# Altium integrated library TI Microcontroller MSP430 16-bit Ultra-Low Power.IntLib: 1463 symbols (part 127 of 130)
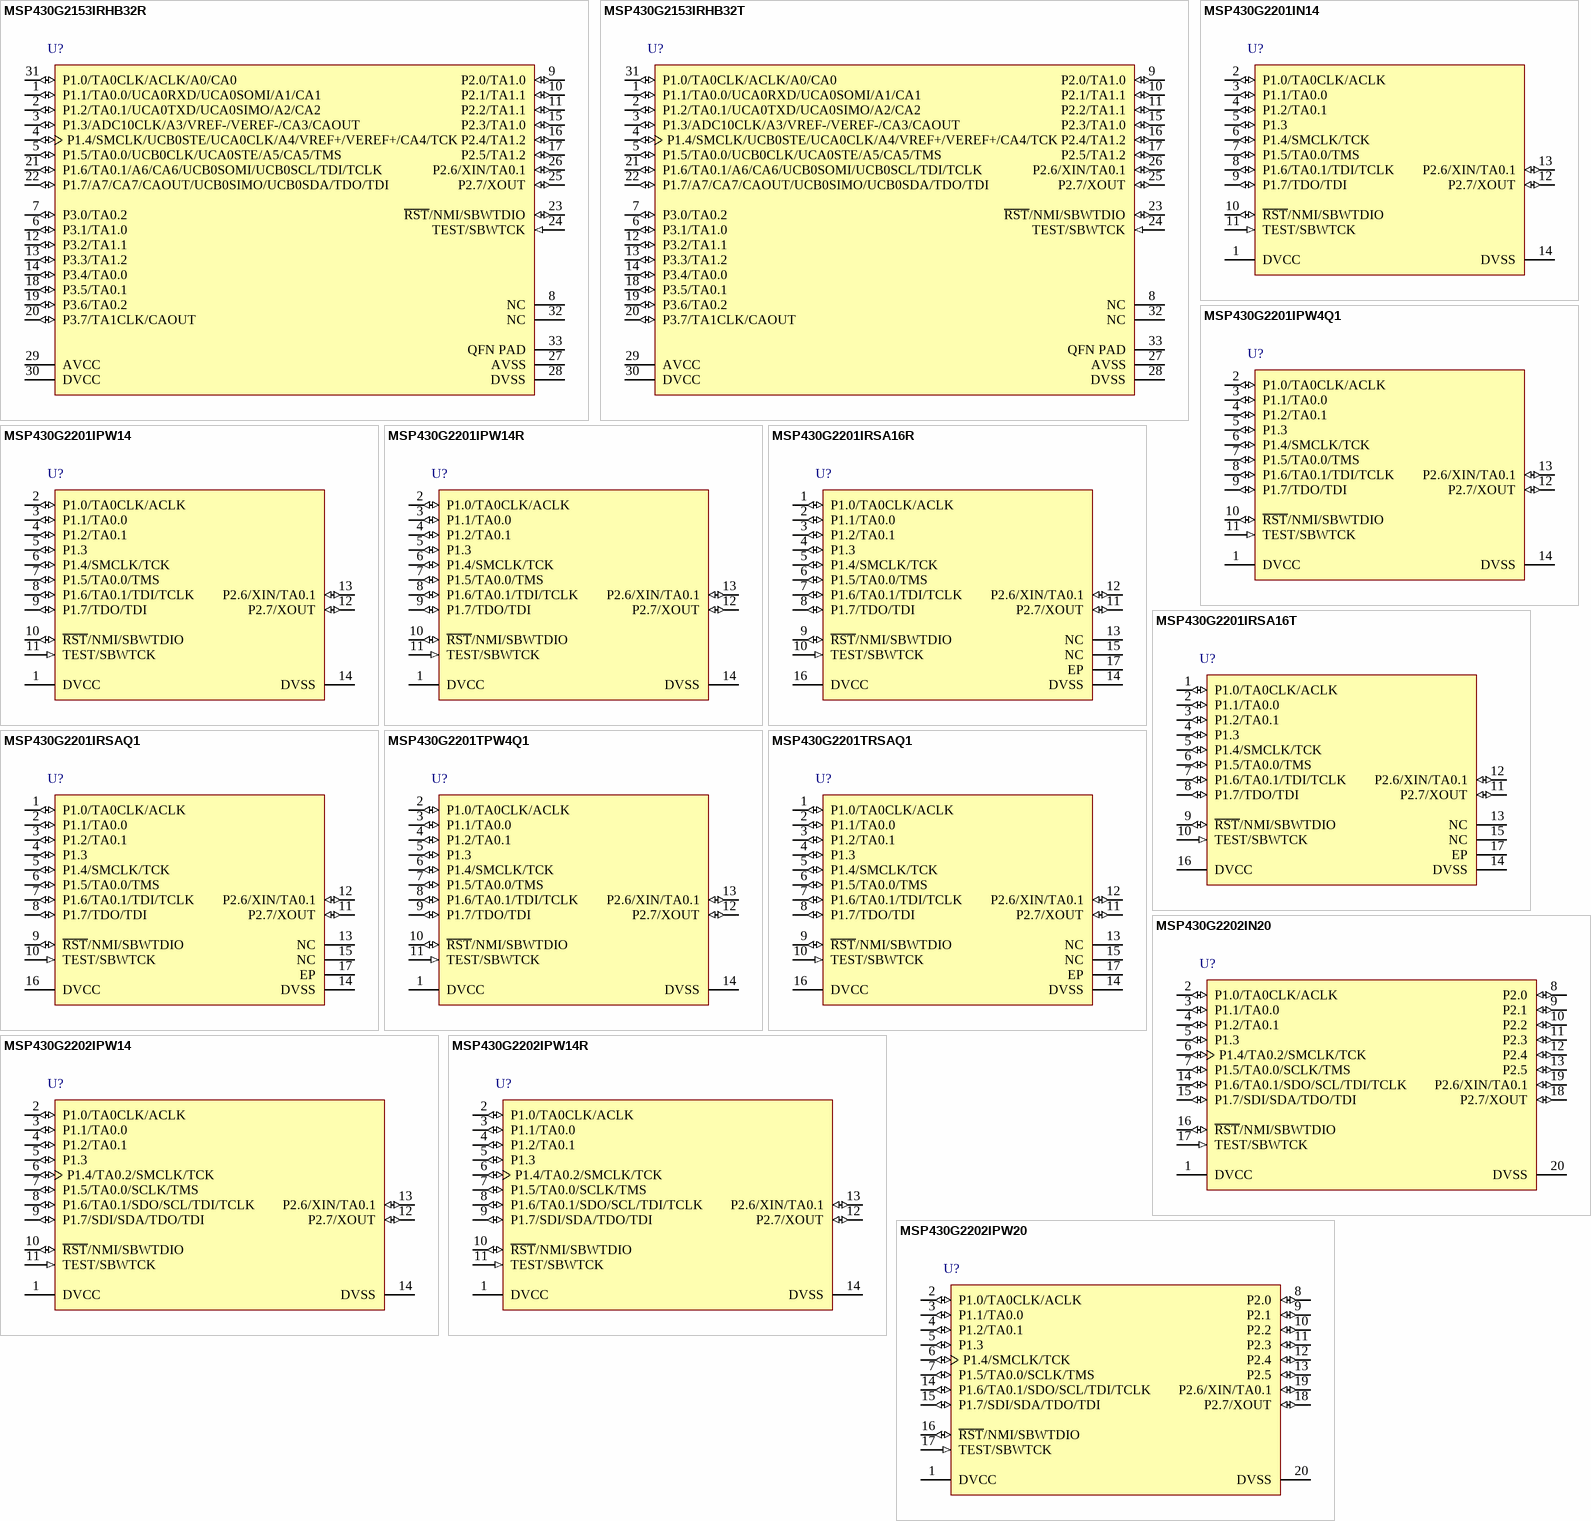
[diagram p299: symbols MSP430G2153IRHB32R to MSP430G2202IPW20]

## MSP430G2202IPW20
designator U?
16 MHz Mixed Signal Microcontroller with 2 KB Flash, 256 B SRAM and 16 GPIOs, 20-pin SOP (PW), Green (RoHS & no Sb/Br); Manufacturer: Texas Instruments; PartNumber: MSP430G2202IPW20; Brown Out Reset: Yes; Flash(KB): 2; Frequency(MHz): 16; SRAM(B): 256; SubFamily: Value Line; Timers - 16-bit: 1; USI: (I2C/SPI); DatasheetVersion: SLAS723F; PackageVersion: 4040064-5/G; PackageReference: PW20; PackageDescription: 20-Pin Plastic Small Outline, Body 6.5 x 4.4 mm, 0.65 mm Pitch; Supplier 1: Digi-Key; Supplier Part Number 1: MSP430G2202IPW14R-ND; Supplier 2: Mouser; Supplier Part Number 2: 595-SP430G2202IPW14R; Cap touch I/O: Yes; Eco-Plan: Green (RoHS & no Sb/Br); GPIO: 16; Watchdog: Yes; Mounting Technology: Surface Mount; Code_JEDEC: MO-153; ComponentLink1Description: Manufacturer URL; ComponentLink1URL: http://www.ti.com/; ComponentLink2Description: Datasheet; ComponentLink2URL: http://www.ti.com/general/docs/lit/getliterature.tsp?genericPartNumber=MSP430G2202&fileType=pdf; ComponentLink3Description: Package Specification; ComponentLink3URL: http://www.ti.com.cn/cn/lit/ml/mpds362/mpds362.pdf
footprint TI-PW20_N (SOP, 20-Leads, Body 6.5x4.4mm, Pitch 0.65mm, IPC Medium Density)
pins: 1 DVCC (power) "Supply voltage", 2 P1.0/TA0CLK/ACLK (io), 3 P1.1/TA0.0 (io), 4 P1.2/TA0.1 (io), 5 P1.3 (io) "General-purpose digital I/O pin", 6 P1.4/SMCLK/TCK (io), 7 P1.5/TA0.0/SCLK/TMS (io), 8 P2.0 (io) "General-purpose digital I/O pin", 9 P2.1 (io) "General-purpose digital I/O pin", 10 P2.2 (io) "General-purpose digital I/O pin", 11 P2.3 (io) "General-purpose digital I/O pin", 12 P2.4 (io) "General-purpose digital I/O pin", 13 P2.5 (io) "General-purpose digital I/O pin", 14 P1.6/TA0.1/SDO/SCL/TDI/TCLK (io), 15 P1.7/SDI/SDA/TDO/TDI (io), 16 ~{RST}/NMI/SBWTDIO (io), 17 TEST/SBWTCK (in), 18 P2.7/XOUT (io), 19 P2.6/XIN/TA0.1 (io), 20 DVSS (power) "Ground reference"

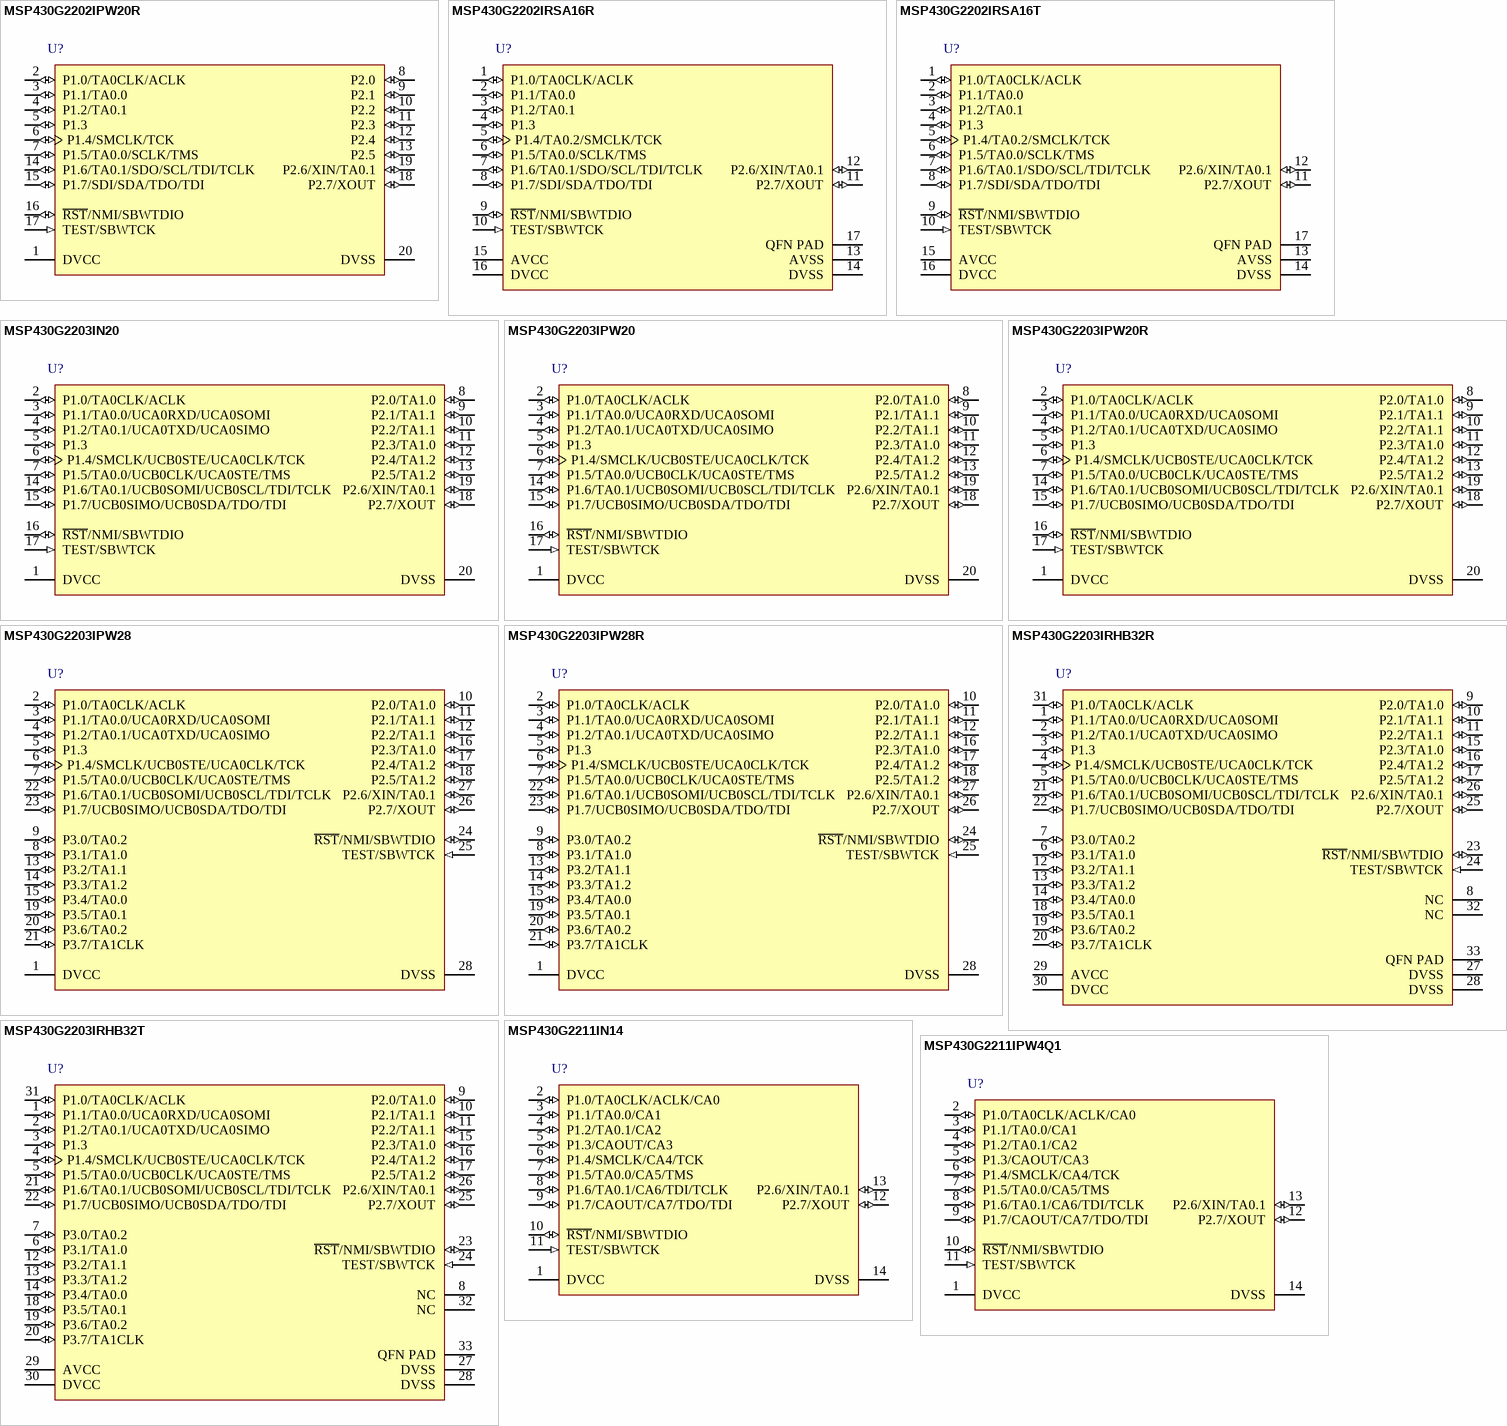
[diagram p217: symbols MSP430G2202IPW20R to MSP430G2211IPW4Q1]

## MSP430G2202IPW20R
designator U?
16 MHz Mixed Signal Microcontroller with 2 KB Flash, 256 B SRAM and 16 GPIOs, 20-pin SOP (PW), Green (RoHS & no Sb/Br); Manufacturer: Texas Instruments; PartNumber: MSP430G2202IPW20R; Brown Out Reset: Yes; Flash(KB): 2; Frequency(MHz): 16; SRAM(B): 256; SubFamily: Value Line; Timers - 16-bit: 1; USI: (I2C/SPI); DatasheetVersion: SLAS723F; PackageVersion: 4040064-5/G; PackageReference: PW20; PackageDescription: 20-Pin Plastic Small Outline, Body 6.5 x 4.4 mm, 0.65 mm Pitch; Supplier 1: Digi-Key; Supplier Part Number 1: 296-29631-5-ND; Supplier 2: Farnell; Supplier Part Number 2: 1866859; Supplier 3: Newark; Supplier Part Number 3: 24T4655; Supplier 4: Mouser; Supplier Part Number 4: 595-MSP430G2202IPW20; Cap touch I/O: Yes; Eco-Plan: Green (RoHS & no Sb/Br); GPIO: 16; Watchdog: Yes; Mounting Technology: Surface Mount; Code_JEDEC: MO-153; ComponentLink1Description: Manufacturer URL; ComponentLink1URL: http://www.ti.com/; ComponentLink2Description: Datasheet; ComponentLink2URL: http://www.ti.com/general/docs/lit/getliterature.tsp?genericPartNumber=MSP430G2202&fileType=pdf; ComponentLink3Description: Package Specification; ComponentLink3URL: http://www.ti.com.cn/cn/lit/ml/mpds362/mpds362.pdf
footprint TI-PW20_N (SOP, 20-Leads, Body 6.5x4.4mm, Pitch 0.65mm, IPC Medium Density)
pins: 1 DVCC (power) "Supply voltage", 2 P1.0/TA0CLK/ACLK (io), 3 P1.1/TA0.0 (io), 4 P1.2/TA0.1 (io), 5 P1.3 (io) "General-purpose digital I/O pin", 6 P1.4/SMCLK/TCK (io), 7 P1.5/TA0.0/SCLK/TMS (io), 8 P2.0 (io) "General-purpose digital I/O pin", 9 P2.1 (io) "General-purpose digital I/O pin", 10 P2.2 (io) "General-purpose digital I/O pin", 11 P2.3 (io) "General-purpose digital I/O pin", 12 P2.4 (io) "General-purpose digital I/O pin", 13 P2.5 (io) "General-purpose digital I/O pin", 14 P1.6/TA0.1/SDO/SCL/TDI/TCLK (io), 15 P1.7/SDI/SDA/TDO/TDI (io), 16 ~{RST}/NMI/SBWTDIO (io), 17 TEST/SBWTCK (in), 18 P2.7/XOUT (io), 19 P2.6/XIN/TA0.1 (io), 20 DVSS (power) "Ground reference"

## MSP430G2202IRSA16R
designator U?
16 MHz Mixed Signal Microcontroller with 2 KB Flash, 256 B SRAM and 16 GPIOs, 16-pin QFN (RSA), Green (RoHS & no Sb/Br); Manufacturer: Texas Instruments; PartNumber: MSP430G2202IRSA16R; Brown Out Reset: Yes; Flash(KB): 2; Frequency(MHz): 16; SRAM(B): 256; SubFamily: Value Line; Timers - 16-bit: 1; USI: (I2C/SPI); DatasheetVersion: SLAS723F; PackageVersion: 4205141/D; PackageReference: RSA16-2700X2700TP; PackageDescription: 16-Pin Plastic Flat Pack, Body 4.00 x 4.00 mm, Pitch 0.65 mm; Supplier 1: Digi-Key; Supplier Part Number 1: MSP430G2202IPW20R-ND; Supplier 2: Mouser; Supplier Part Number 2: 595-SP430G2202IPW20R; Cap touch I/O: Yes; Eco-Plan: Green (RoHS & no Sb/Br); GPIO: 16; Watchdog: Yes; Mounting Technology: Surface Mount; Code_JEDEC: MO-220; ComponentLink1Description: Manufacturer URL; ComponentLink1URL: http://www.ti.com/; ComponentLink2Description: Datasheet; ComponentLink2URL: http://www.ti.com/general/docs/lit/getliterature.tsp?genericPartNumber=MSP430G2202&fileType=pdf; ComponentLink3Description: Package Specification; ComponentLink3URL: http://www.ti.com/litv/pdf/mpqf145c
footprint TI-RSA16-2700X2700TP_N (QFN, 16-Leads, Body 4x4mm, Pitch 0.65mm, Thermal Pad 2.7x2.7mm, IPC Medium Density)
pins: 1 P1.0/TA0CLK/ACLK (io), 2 P1.1/TA0.0 (io), 3 P1.2/TA0.1 (io), 4 P1.3 (io) "General-purpose digital I/O pin", 5 P1.4/TA0.2/SMCLK/TCK (io), 6 P1.5/TA0.0/SCLK/TMS (io), 7 P1.6/TA0.1/SDO/SCL/TDI/TCLK (io), 8 P1.7/SDI/SDA/TDO/TDI (io), 9 ~{RST}/NMI/SBWTDIO (io), 10 TEST/SBWTCK (in), 11 P2.7/XOUT (io), 12 P2.6/XIN/TA0.1 (io), 13 AVSS (power) "Ground reference", 14 DVSS (power) "Ground reference", 15 AVCC (power) "Supply voltage", 16 DVCC (power) "Supply voltage", 17 QFN PAD (power) "QFN package pad connection to VSS recommended."

## MSP430G2202IRSA16T
designator U?
16 MHz Mixed Signal Microcontroller with 2 KB Flash, 256 B SRAM and 16 GPIOs, 16-pin QFN (RSA), Green (RoHS & no Sb/Br); Manufacturer: Texas Instruments; PartNumber: MSP430G2202IRSA16T; Brown Out Reset: Yes; Flash(KB): 2; Frequency(MHz): 16; SRAM(B): 256; SubFamily: Value Line; Timers - 16-bit: 1; USI: (I2C/SPI); DatasheetVersion: SLAS723F; PackageVersion: 4205141/D; PackageReference: RSA16-2700X2700TP; PackageDescription: 16-Pin Plastic Flat Pack, Body 4.00 x 4.00 mm, Pitch 0.65 mm; Supplier 1: Digi-Key; Supplier Part Number 1: MSP430G2202IRSA16R-ND; Supplier 2: Mouser; Supplier Part Number 2: 595-P430G2202IRSA16R; Cap touch I/O: Yes; Eco-Plan: Green (RoHS & no Sb/Br); GPIO: 16; Watchdog: Yes; Mounting Technology: Surface Mount; Code_JEDEC: MO-220; ComponentLink1Description: Manufacturer URL; ComponentLink1URL: http://www.ti.com/; ComponentLink2Description: Datasheet; ComponentLink2URL: http://www.ti.com/general/docs/lit/getliterature.tsp?genericPartNumber=MSP430G2202&fileType=pdf; ComponentLink3Description: Package Specification; ComponentLink3URL: http://www.ti.com/litv/pdf/mpqf145c
footprint TI-RSA16-2700X2700TP_N (QFN, 16-Leads, Body 4x4mm, Pitch 0.65mm, Thermal Pad 2.7x2.7mm, IPC Medium Density)
pins: 1 P1.0/TA0CLK/ACLK (io), 2 P1.1/TA0.0 (io), 3 P1.2/TA0.1 (io), 4 P1.3 (io) "General-purpose digital I/O pin", 5 P1.4/TA0.2/SMCLK/TCK (io), 6 P1.5/TA0.0/SCLK/TMS (io), 7 P1.6/TA0.1/SDO/SCL/TDI/TCLK (io), 8 P1.7/SDI/SDA/TDO/TDI (io), 9 ~{RST}/NMI/SBWTDIO (io), 10 TEST/SBWTCK (in), 11 P2.7/XOUT (io), 12 P2.6/XIN/TA0.1 (io), 13 AVSS (power) "Ground reference", 14 DVSS (power) "Ground reference", 15 AVCC (power) "Supply voltage", 16 DVCC (power) "Supply voltage", 17 QFN PAD (power) "QFN package pad connection to VSS recommended."

## MSP430G2203IN20
designator U?
16 MHz Mixed Signal Microcontroller with 2 KB Flash, 256 B SRAM and 24 GPIOs, -40 to 85 degC, 20-pin DIP (N20), Pb-Free (RoHS); Manufacturer: Texas Instruments; PartNumber: MSP430G2203IN20; Brown Out Reset: Yes; Flash(KB): 2; Frequency(MHz): 16; GPIO: 24; SRAM(B): 256; SubFamily: Value Line; USCI_A (UART/LIN/IrDA/SPI): 1; DatasheetVersion: SLAS734D; PackageVersion: 4040049/E; PackageReference: N20; PackageDescription: 20-Pin Plastic In-Line, Body 25.40 x 6.35 mm, Pitch 2.54 mm; Supplier 1: Digi-Key; Supplier Part Number 1: MSP430G2202IRSA16T-ND; Supplier 2: Farnell; Supplier Part Number 2: 1866860; Supplier 3: Mouser; Supplier Part Number 3: 595-P430G2202IRSA16T; Cap touch I/O: Yes; Eco-Plan: Pb-Free (RoHS); Timers - 16-bit: 2; USCI_B (I2C & SPI): 1; Watchdog: Yes; Mounting Technology: Through Hole; Code_JEDEC: MS-001; ComponentLink1Description: Manufacturer URL; ComponentLink1URL: http://www.ti.com/; ComponentLink2Description: Datasheet; ComponentLink2URL: http://www.ti.com/general/docs/lit/getliterature.tsp?genericPartNumber=MSP430G2203&fileType=pdf; ComponentLink3Description: Package Specification; ComponentLink3URL: http://www.ti.com/litv/pdf/mpds177g
footprint TI-N20 (DIP, 20-Leads, Body 25.4x6.35 mm, Pitch 2.54 mm)
pins: 1 DVCC (power) "Supply voltage", 2 P1.0/TA0CLK/ACLK (io), 3 P1.1/TA0.0/UCA0RXD/UCA0SOMI (io), 4 P1.2/TA0.1/UCA0TXD/UCA0SIMO (io), 5 P1.3 (io) "General-purpose digital I/O pin", 6 P1.4/SMCLK/UCB0STE/UCA0CLK/TCK (io), 7 P1.5/TA0.0/UCB0CLK/UCA0STE/TMS (io), 8 P2.0/TA1.0 (io), 9 P2.1/TA1.1 (io), 10 P2.2/TA1.1 (io), 11 P2.3/TA1.0 (io), 12 P2.4/TA1.2 (io), 13 P2.5/TA1.2 (io), 14 P1.6/TA0.1/UCB0SOMI/UCB0SCL/TDI/TCLK (io), 15 P1.7/UCB0SIMO/UCB0SDA/TDO/TDI (io), 16 ~{RST}/NMI/SBWTDIO (io), 17 TEST/SBWTCK (in), 18 P2.7/XOUT (io), 19 P2.6/XIN/TA0.1 (io), 20 DVSS (power) "Ground reference"

## MSP430G2203IPW20
designator U?
16 MHz Mixed Signal Microcontroller with 2 KB Flash, 256 B SRAM and 24 GPIOs, -40 to 85 degC, 20-pin SOP (PW), Green (RoHS & no Sb/Br); Manufacturer: Texas Instruments; PartNumber: MSP430G2203IPW20; Brown Out Reset: Yes; Flash(KB): 2; Frequency(MHz): 16; GPIO: 24; SRAM(B): 256; SubFamily: Value Line; USCI_A (UART/LIN/IrDA/SPI): 1; DatasheetVersion: SLAS734D; PackageVersion: 4040064-5/G; PackageReference: PW20; PackageDescription: 20-Pin Plastic Small Outline, Body 6.5 x 4.4 mm, 0.65 mm Pitch; Supplier 1: Digi-Key; Supplier Part Number 1: 296-28757-5-ND; Supplier 2: Newark; Supplier Part Number 2: 45T9777; Supplier 3: Mouser; Supplier Part Number 3: 595-MSP430G2203IN20; Cap touch I/O: Yes; Eco-Plan: Green (RoHS & no Sb/Br); Timers - 16-bit: 2; USCI_B (I2C & SPI): 1; Watchdog: Yes; Mounting Technology: Surface Mount; Code_JEDEC: MO-153; ComponentLink1Description: Manufacturer URL; ComponentLink1URL: http://www.ti.com/; ComponentLink2Description: Datasheet; ComponentLink2URL: http://www.ti.com/general/docs/lit/getliterature.tsp?genericPartNumber=MSP430G2203&fileType=pdf; ComponentLink3Description: Package Specification; ComponentLink3URL: http://www.ti.com.cn/cn/lit/ml/mpds362/mpds362.pdf
footprint TI-PW20_N (SOP, 20-Leads, Body 6.5x4.4mm, Pitch 0.65mm, IPC Medium Density)
pins: 1 DVCC (power) "Supply voltage", 2 P1.0/TA0CLK/ACLK (io), 3 P1.1/TA0.0/UCA0RXD/UCA0SOMI (io), 4 P1.2/TA0.1/UCA0TXD/UCA0SIMO (io), 5 P1.3 (io) "General-purpose digital I/O pin", 6 P1.4/SMCLK/UCB0STE/UCA0CLK/TCK (io), 7 P1.5/TA0.0/UCB0CLK/UCA0STE/TMS (io), 8 P2.0/TA1.0 (io), 9 P2.1/TA1.1 (io), 10 P2.2/TA1.1 (io), 11 P2.3/TA1.0 (io), 12 P2.4/TA1.2 (io), 13 P2.5/TA1.2 (io), 14 P1.6/TA0.1/UCB0SOMI/UCB0SCL/TDI/TCLK (io), 15 P1.7/UCB0SIMO/UCB0SDA/TDO/TDI (io), 16 ~{RST}/NMI/SBWTDIO (io), 17 TEST/SBWTCK (in), 18 P2.7/XOUT (io), 19 P2.6/XIN/TA0.1 (io), 20 DVSS (power) "Ground reference"

## MSP430G2203IPW20R
designator U?
16 MHz Mixed Signal Microcontroller with 2 KB Flash, 256 B SRAM and 24 GPIOs, -40 to 85 degC, 20-pin SOP (PW), Green (RoHS & no Sb/Br); Manufacturer: Texas Instruments; PartNumber: MSP430G2203IPW20R; Brown Out Reset: Yes; Flash(KB): 2; Frequency(MHz): 16; GPIO: 24; SRAM(B): 256; SubFamily: Value Line; USCI_A (UART/LIN/IrDA/SPI): 1; DatasheetVersion: SLAS734D; PackageVersion: 4040064-5/G; PackageReference: PW20; PackageDescription: 20-Pin Plastic Small Outline, Body 6.5 x 4.4 mm, 0.65 mm Pitch; Supplier 1: Digi-Key; Supplier Part Number 1: 296-28758-5-ND; Supplier 2: Mouser; Supplier Part Number 2: 595-MSP430G2203IPW20; Cap touch I/O: Yes; Eco-Plan: Green (RoHS & no Sb/Br); Timers - 16-bit: 2; USCI_B (I2C & SPI): 1; Watchdog: Yes; Mounting Technology: Surface Mount; Code_JEDEC: MO-153; ComponentLink1Description: Manufacturer URL; ComponentLink1URL: http://www.ti.com/; ComponentLink2Description: Datasheet; ComponentLink2URL: http://www.ti.com/general/docs/lit/getliterature.tsp?genericPartNumber=MSP430G2203&fileType=pdf; ComponentLink3Description: Package Specification; ComponentLink3URL: http://www.ti.com.cn/cn/lit/ml/mpds362/mpds362.pdf
footprint TI-PW20_N (SOP, 20-Leads, Body 6.5x4.4mm, Pitch 0.65mm, IPC Medium Density)
pins: 1 DVCC (power) "Supply voltage", 2 P1.0/TA0CLK/ACLK (io), 3 P1.1/TA0.0/UCA0RXD/UCA0SOMI (io), 4 P1.2/TA0.1/UCA0TXD/UCA0SIMO (io), 5 P1.3 (io) "General-purpose digital I/O pin", 6 P1.4/SMCLK/UCB0STE/UCA0CLK/TCK (io), 7 P1.5/TA0.0/UCB0CLK/UCA0STE/TMS (io), 8 P2.0/TA1.0 (io), 9 P2.1/TA1.1 (io), 10 P2.2/TA1.1 (io), 11 P2.3/TA1.0 (io), 12 P2.4/TA1.2 (io), 13 P2.5/TA1.2 (io), 14 P1.6/TA0.1/UCB0SOMI/UCB0SCL/TDI/TCLK (io), 15 P1.7/UCB0SIMO/UCB0SDA/TDO/TDI (io), 16 ~{RST}/NMI/SBWTDIO (io), 17 TEST/SBWTCK (in), 18 P2.7/XOUT (io), 19 P2.6/XIN/TA0.1 (io), 20 DVSS (power) "Ground reference"

## MSP430G2203IPW28
designator U?
16 MHz Mixed Signal Microcontroller with 2 KB Flash, 256 B SRAM and 24 GPIOs, -40 to 85 degC, 28-pin SOP (PW), Green (RoHS & no Sb/Br); Manufacturer: Texas Instruments; PartNumber: MSP430G2203IPW28; Brown Out Reset: Yes; Flash(KB): 2; Frequency(MHz): 16; GPIO: 24; SRAM(B): 256; SubFamily: Value Line; USCI_A (UART/LIN/IrDA/SPI): 1; DatasheetVersion: SLAS734D; PackageVersion: 4040064-7/G; PackageReference: PW28; PackageDescription: 28-Pin Plastic Small Outline, Body 9.7 x 4.4 mm, Pitch 0.65 mm; Supplier 1: Digi-Key; Supplier Part Number 1: MSP430G2203IPW20R-ND; Supplier 2: Mouser; Supplier Part Number 2: 595-SP430G2203IPW20R; Cap touch I/O: Yes; Eco-Plan: Green (RoHS & no Sb/Br); Timers - 16-bit: 2; USCI_B (I2C & SPI): 1; Watchdog: Yes; Mounting Technology: Surface Mount; Code_JEDEC: MO-153; ComponentLink1Description: Manufacturer URL; ComponentLink1URL: http://www.ti.com/; ComponentLink2Description: Datasheet; ComponentLink2URL: http://www.ti.com/general/docs/lit/getliterature.tsp?genericPartNumber=MSP430G2203&fileType=pdf; ComponentLink3Description: Package Specification; ComponentLink3URL: http://www.ti.com/litv/pdf/mpds364
footprint TI-PW28_N (SOP, 28-Leads, Body 9.7x4.4mm, Pitch 0.65mm, IPC Medium Density)
pins: 1 DVCC (power) "Digital supply voltage", 2 P1.0/TA0CLK/ACLK (io), 3 P1.1/TA0.0/UCA0RXD/UCA0SOMI (io), 4 P1.2/TA0.1/UCA0TXD/UCA0SIMO (io), 5 P1.3 (io) "General-purpose digital I/O pin", 6 P1.4/SMCLK/UCB0STE/UCA0CLK/TCK (io), 7 P1.5/TA0.0/UCB0CLK/UCA0STE/TMS (io), 8 P3.1/TA1.0 (io), 9 P3.0/TA0.2 (io), 10 P2.0/TA1.0 (io), 11 P2.1/TA1.1 (io), 12 P2.2/TA1.1 (io), 13 P3.2/TA1.1 (io), 14 P3.3/TA1.2 (io), 15 P3.4/TA0.0 (io), 16 P2.3/TA1.0 (io), 17 P2.4/TA1.2 (io), 18 P2.5/TA1.2 (io), 19 P3.5/TA0.1 (io), 20 P3.6/TA0.2 (io), 21 P3.7/TA1CLK (io), 22 P1.6/TA0.1/UCB0SOMI/UCB0SCL/TDI/TCLK (io), 23 P1.7/UCB0SIMO/UCB0SDA/TDO/TDI (io), 24 ~{RST}/NMI/SBWTDIO (io), 25 TEST/SBWTCK (in), 26 P2.7/XOUT (io), 27 P2.6/XIN/TA0.1 (io), 28 DVSS (power) "Ground reference"

## MSP430G2203IPW28R
designator U?
16 MHz Mixed Signal Microcontroller with 2 KB Flash, 256 B SRAM and 24 GPIOs, -40 to 85 degC, 28-pin SOP (PW), Green (RoHS & no Sb/Br); Manufacturer: Texas Instruments; PartNumber: MSP430G2203IPW28R; Brown Out Reset: Yes; Flash(KB): 2; Frequency(MHz): 16; GPIO: 24; SRAM(B): 256; SubFamily: Value Line; USCI_A (UART/LIN/IrDA/SPI): 1; DatasheetVersion: SLAS734D; PackageVersion: 4040064-7/G; PackageReference: PW28; PackageDescription: 28-Pin Plastic Small Outline, Body 9.7 x 4.4 mm, Pitch 0.65 mm; Supplier 1: Digi-Key; Supplier Part Number 1: 296-28759-5-ND; Supplier 2: Newark; Supplier Part Number 2: 45T9780; Supplier 3: Mouser; Supplier Part Number 3: 595-MSP430G2203IPW28; Cap touch I/O: Yes; Eco-Plan: Green (RoHS & no Sb/Br); Timers - 16-bit: 2; USCI_B (I2C & SPI): 1; Watchdog: Yes; Mounting Technology: Surface Mount; Code_JEDEC: MO-153; ComponentLink1Description: Manufacturer URL; ComponentLink1URL: http://www.ti.com/; ComponentLink2Description: Datasheet; ComponentLink2URL: http://www.ti.com/general/docs/lit/getliterature.tsp?genericPartNumber=MSP430G2203&fileType=pdf; ComponentLink3Description: Package Specification; ComponentLink3URL: http://www.ti.com/litv/pdf/mpds364
footprint TI-PW28_N (SOP, 28-Leads, Body 9.7x4.4mm, Pitch 0.65mm, IPC Medium Density)
pins: 1 DVCC (power) "Digital supply voltage", 2 P1.0/TA0CLK/ACLK (io), 3 P1.1/TA0.0/UCA0RXD/UCA0SOMI (io), 4 P1.2/TA0.1/UCA0TXD/UCA0SIMO (io), 5 P1.3 (io) "General-purpose digital I/O pin", 6 P1.4/SMCLK/UCB0STE/UCA0CLK/TCK (io), 7 P1.5/TA0.0/UCB0CLK/UCA0STE/TMS (io), 8 P3.1/TA1.0 (io), 9 P3.0/TA0.2 (io), 10 P2.0/TA1.0 (io), 11 P2.1/TA1.1 (io), 12 P2.2/TA1.1 (io), 13 P3.2/TA1.1 (io), 14 P3.3/TA1.2 (io), 15 P3.4/TA0.0 (io), 16 P2.3/TA1.0 (io), 17 P2.4/TA1.2 (io), 18 P2.5/TA1.2 (io), 19 P3.5/TA0.1 (io), 20 P3.6/TA0.2 (io), 21 P3.7/TA1CLK (io), 22 P1.6/TA0.1/UCB0SOMI/UCB0SCL/TDI/TCLK (io), 23 P1.7/UCB0SIMO/UCB0SDA/TDO/TDI (io), 24 ~{RST}/NMI/SBWTDIO (io), 25 TEST/SBWTCK (in), 26 P2.7/XOUT (io), 27 P2.6/XIN/TA0.1 (io), 28 DVSS (power) "Ground reference"

## MSP430G2203IRHB32R
designator U?
16 MHz Mixed Signal Microcontroller with 2 KB Flash, 256 B SRAM and 24 GPIOs, -40 to 85 degC, 32-pin QFN (RHB), Green (RoHS & no Sb/Br); Manufacturer: Texas Instruments; PartNumber: MSP430G2203IRHB32R; Brown Out Reset: Yes; Flash(KB): 2; Frequency(MHz): 16; GPIO: 24; SRAM(B): 256; SubFamily: Value Line; USCI_A (UART/LIN/IrDA/SPI): 1; DatasheetVersion: SLAS734D; PackageVersion: 4204326/D; PackageReference: RHB32-3450X3450TP; PackageDescription: 32-Pin Plastic Flat Pack, Body 5 x 5 mm, Pitch 0.5 mm; Supplier 1: Digi-Key; Supplier Part Number 1: MSP430G2203IPW28R-ND; Supplier 2: Mouser; Supplier Part Number 2: 595-SP430G2203IPW28R; Cap touch I/O: Yes; Eco-Plan: Green (RoHS & no Sb/Br); Timers - 16-bit: 2; USCI_B (I2C & SPI): 1; Watchdog: Yes; Mounting Technology: Surface Mount; Code_JEDEC: MO-220; ComponentLink1Description: Manufacturer URL; ComponentLink1URL: http://www.ti.com/; ComponentLink2Description: Datasheet; ComponentLink2URL: http://www.ti.com/general/docs/lit/getliterature.tsp?genericPartNumber=MSP430G2203&fileType=pdf; ComponentLink3Description: Package Specification; ComponentLink3URL: http://www.ti.com/lit/ml/mpqf130c/mpqf130c.pdf
footprint TI-RHB32-3450X3450TP_N (QFN, 32-Leads, Body 5x5mm, Pitch 0.5mm, Thermal Pad 3.45x3.45mm, IPC Medium Density)
pins: 1 P1.1/TA0.0/UCA0RXD/UCA0SOMI (io), 2 P1.2/TA0.1/UCA0TXD/UCA0SIMO (io), 3 P1.3 (io) "General-purpose digital I/O pin", 4 P1.4/SMCLK/UCB0STE/UCA0CLK/TCK (io), 5 P1.5/TA0.0/UCB0CLK/UCA0STE/TMS (io), 6 P3.1/TA1.0 (io), 7 P3.0/TA0.2 (io), 8 NC "Not connected", 9 P2.0/TA1.0 (io), 10 P2.1/TA1.1 (io), 11 P2.2/TA1.1 (io), 12 P3.2/TA1.1 (io), 13 P3.3/TA1.2 (io), 14 P3.4/TA0.0 (io), 15 P2.3/TA1.0 (io), 16 P2.4/TA1.2 (io), 17 P2.5/TA1.2 (io), 18 P3.5/TA0.1 (io), 19 P3.6/TA0.2 (io), 20 P3.7/TA1CLK (io), 21 P1.6/TA0.1/UCB0SOMI/UCB0SCL/TDI/TCLK (io), 22 P1.7/UCB0SIMO/UCB0SDA/TDO/TDI (io), 23 ~{RST}/NMI/SBWTDIO (io), 24 TEST/SBWTCK (in), 25 P2.7/XOUT (io), 26 P2.6/XIN/TA0.1 (io), 27 DVSS (power) "Ground reference", 28 DVSS (power) "Ground reference", 29 AVCC (power) "Analog supply voltage", 30 DVCC (power) "Digital supply voltage", 31 P1.0/TA0CLK/ACLK (io), 32 NC "Not connected", 33 QFN PAD (power) "QFN package pad. Connection to VSS is recommended."

## MSP430G2203IRHB32T
designator U?
16 MHz Mixed Signal Microcontroller with 2 KB Flash, 256 B SRAM and 24 GPIOs, -40 to 85 degC, 32-pin QFN (RHB), Green (RoHS & no Sb/Br); Manufacturer: Texas Instruments; PartNumber: MSP430G2203IRHB32T; Brown Out Reset: Yes; Flash(KB): 2; Frequency(MHz): 16; GPIO: 24; SRAM(B): 256; SubFamily: Value Line; USCI_A (UART/LIN/IrDA/SPI): 1; DatasheetVersion: SLAS734D; PackageVersion: 4204326/D; PackageReference: RHB32-3450X3450TP; PackageDescription: 32-Pin Plastic Flat Pack, Body 5 x 5 mm, Pitch 0.5 mm; Supplier 1: Digi-Key; Supplier Part Number 1: MSP430G2203IRHB32R-ND; Supplier 2: Mouser; Supplier Part Number 2: 595-P430G2203IRHB32R; Cap touch I/O: Yes; Eco-Plan: Green (RoHS & no Sb/Br); Timers - 16-bit: 2; USCI_B (I2C & SPI): 1; Watchdog: Yes; Mounting Technology: Surface Mount; Code_JEDEC: MO-220; ComponentLink1Description: Manufacturer URL; ComponentLink1URL: http://www.ti.com/; ComponentLink2Description: Datasheet; ComponentLink2URL: http://www.ti.com/general/docs/lit/getliterature.tsp?genericPartNumber=MSP430G2203&fileType=pdf; ComponentLink3Description: Package Specification; ComponentLink3URL: http://www.ti.com/lit/ml/mpqf130c/mpqf130c.pdf
footprint TI-RHB32-3450X3450TP_N (QFN, 32-Leads, Body 5x5mm, Pitch 0.5mm, Thermal Pad 3.45x3.45mm, IPC Medium Density)
pins: 1 P1.1/TA0.0/UCA0RXD/UCA0SOMI (io), 2 P1.2/TA0.1/UCA0TXD/UCA0SIMO (io), 3 P1.3 (io) "General-purpose digital I/O pin", 4 P1.4/SMCLK/UCB0STE/UCA0CLK/TCK (io), 5 P1.5/TA0.0/UCB0CLK/UCA0STE/TMS (io), 6 P3.1/TA1.0 (io), 7 P3.0/TA0.2 (io), 8 NC "Not connected", 9 P2.0/TA1.0 (io), 10 P2.1/TA1.1 (io), 11 P2.2/TA1.1 (io), 12 P3.2/TA1.1 (io), 13 P3.3/TA1.2 (io), 14 P3.4/TA0.0 (io), 15 P2.3/TA1.0 (io), 16 P2.4/TA1.2 (io), 17 P2.5/TA1.2 (io), 18 P3.5/TA0.1 (io), 19 P3.6/TA0.2 (io), 20 P3.7/TA1CLK (io), 21 P1.6/TA0.1/UCB0SOMI/UCB0SCL/TDI/TCLK (io), 22 P1.7/UCB0SIMO/UCB0SDA/TDO/TDI (io), 23 ~{RST}/NMI/SBWTDIO (io), 24 TEST/SBWTCK (in), 25 P2.7/XOUT (io), 26 P2.6/XIN/TA0.1 (io), 27 DVSS (power) "Ground reference", 28 DVSS (power) "Ground reference", 29 AVCC (power) "Analog supply voltage", 30 DVCC (power) "Digital supply voltage", 31 P1.0/TA0CLK/ACLK (io), 32 NC "Not connected", 33 QFN PAD (power) "QFN package pad. Connection to VSS is recommended."

## MSP430G2211IN14
designator U?
16 MHz Mixed Signal Microcontroller with 2 KB Flash, 128 B SRAM and 10 GPIOs, 14-pin PDIP (N), Pb-Free (RoHS); Manufacturer: Texas Instruments; PartNumber: MSP430G2211IN14; ADC: Slope; Brown Out Reset: Yes; Flash(KB): 2; Frequency(MHz): 16; GPIO: 10; SRAM(B): 128; SubFamily: Value Line; Timers - 16-bit: 1; DatasheetVersion: SLAS695G; PackageVersion: 4040049/E; PackageReference: N14; PackageDescription: 14-Pin Plastic In-Line, Body 19.305 x 6.35 mm, Pitch 2.54 mm; Supplier 1: Digi-Key; Supplier Part Number 1: 296-25829-5-ND; Supplier 2: Farnell; Supplier Part Number 2: 1812190; Supplier 3: Newark; Supplier Part Number 3: 67R1937; Supplier 4: Mouser; Supplier Part Number 4: 595-MSP430G2211IN14; Comparators: Yes; Eco-Plan: Pb-Free (RoHS); Watchdog: Yes; Mounting Technology: Through Hole; Code_JEDEC: MS-001; ComponentLink1Description: Manufacturer URL; ComponentLink1URL: http://www.ti.com/; ComponentLink2Description: Datasheet; ComponentLink2URL: http://www.ti.com/lit/ds/symlink/msp430g2001.pdf; ComponentLink3Description: Package Specification; ComponentLink3URL: http://www.ti.com/litv/pdf/mplc004a
footprint TI-N14 (DIP, 14-Leads, Body 19.305x6.35 mm, Pitch 2.54 mm)
pins: 1 DVCC (power) "Supply voltage", 2 P1.0/TA0CLK/ACLK/CA0 (io), 3 P1.1/TA0.0/CA1 (io), 4 P1.2/TA0.1/CA2 (io), 5 P1.3/CAOUT/CA3 (io), 6 P1.4/SMCLK/CA4/TCK (io), 7 P1.5/TA0.0/CA5/TMS (io), 8 P1.6/TA0.1/CA6/TDI/TCLK (io), 9 P1.7/CAOUT/CA7/TDO/TDI (io), 10 ~{RST}/NMI/SBWTDIO (io), 11 TEST/SBWTCK (in), 12 P2.7/XOUT (io), 13 P2.6/XIN/TA0.1 (io), 14 DVSS (power) "Ground reference"

## MSP430G2211IPW4Q1
designator U?
16 MHz Automotive Mixed Signal Microcontroller with 2 KB Flash, 128 B SRAM and 10 GPIOs, -40 to 85 degC, 14-pin TSSOP (PW), Green (RoHS & no Sb/Br); Manufacturer: Texas Instruments; PartNumber: MSP430G2211IPW4Q1; ADC: Slope; Brown Out Reset: Yes; Flash(KB): 2; Frequency(MHz): 16; GPIO: 10; SRAM(B): 128; Timers - 16-bit: 1; USI: (I2C/SPI); DatasheetVersion: SLAS695G; PackageVersion: 4040064-3/G; PackageReference: PW14; PackageDescription: 14-Pin Plastic Small Outline, Body 5 x 4.4 mm, 0.65 mm Pitch; Supplier 1: Digi-Key; Supplier Part Number 1: 296-29953-5-ND; Supplier 2: Farnell; Supplier Part Number 2: 2072132; Supplier 3: Mouser; Supplier Part Number 3: 595-SP430G2211IPW4Q1; Eco-Plan: Green (RoHS & no Sb/Br); SubFamily: Automotive; Watchdog: Yes; Mounting Technology: Surface Mount; Code_JEDEC: MO-153; ComponentLink1Description: Manufacturer URL; ComponentLink1URL: http://www.ti.com/; ComponentLink2Description: Datasheet; ComponentLink2URL: http://www.ti.com/lit/ds/symlink/msp430g2001.pdf; ComponentLink3Description: Package Specification; ComponentLink3URL: http://www.ti.com/litv/pdf/mpds360
footprint TI-PW14_N (SOP, 14-Leads, Body 5x4.4mm, Pitch 0.65mm, IPC Medium Density)
pins: 1 DVCC (power) "Supply voltage", 2 P1.0/TA0CLK/ACLK/CA0 (io), 3 P1.1/TA0.0/CA1 (io), 4 P1.2/TA0.1/CA2 (io), 5 P1.3/CAOUT/CA3 (io), 6 P1.4/SMCLK/CA4/TCK (io), 7 P1.5/TA0.0/CA5/TMS (io), 8 P1.6/TA0.1/CA6/TDI/TCLK (io), 9 P1.7/CAOUT/CA7/TDO/TDI (io), 10 ~{RST}/NMI/SBWTDIO (io), 11 TEST/SBWTCK (in), 12 P2.7/XOUT (io), 13 P2.6/XIN/TA0.1 (io), 14 DVSS (power) "Ground reference"

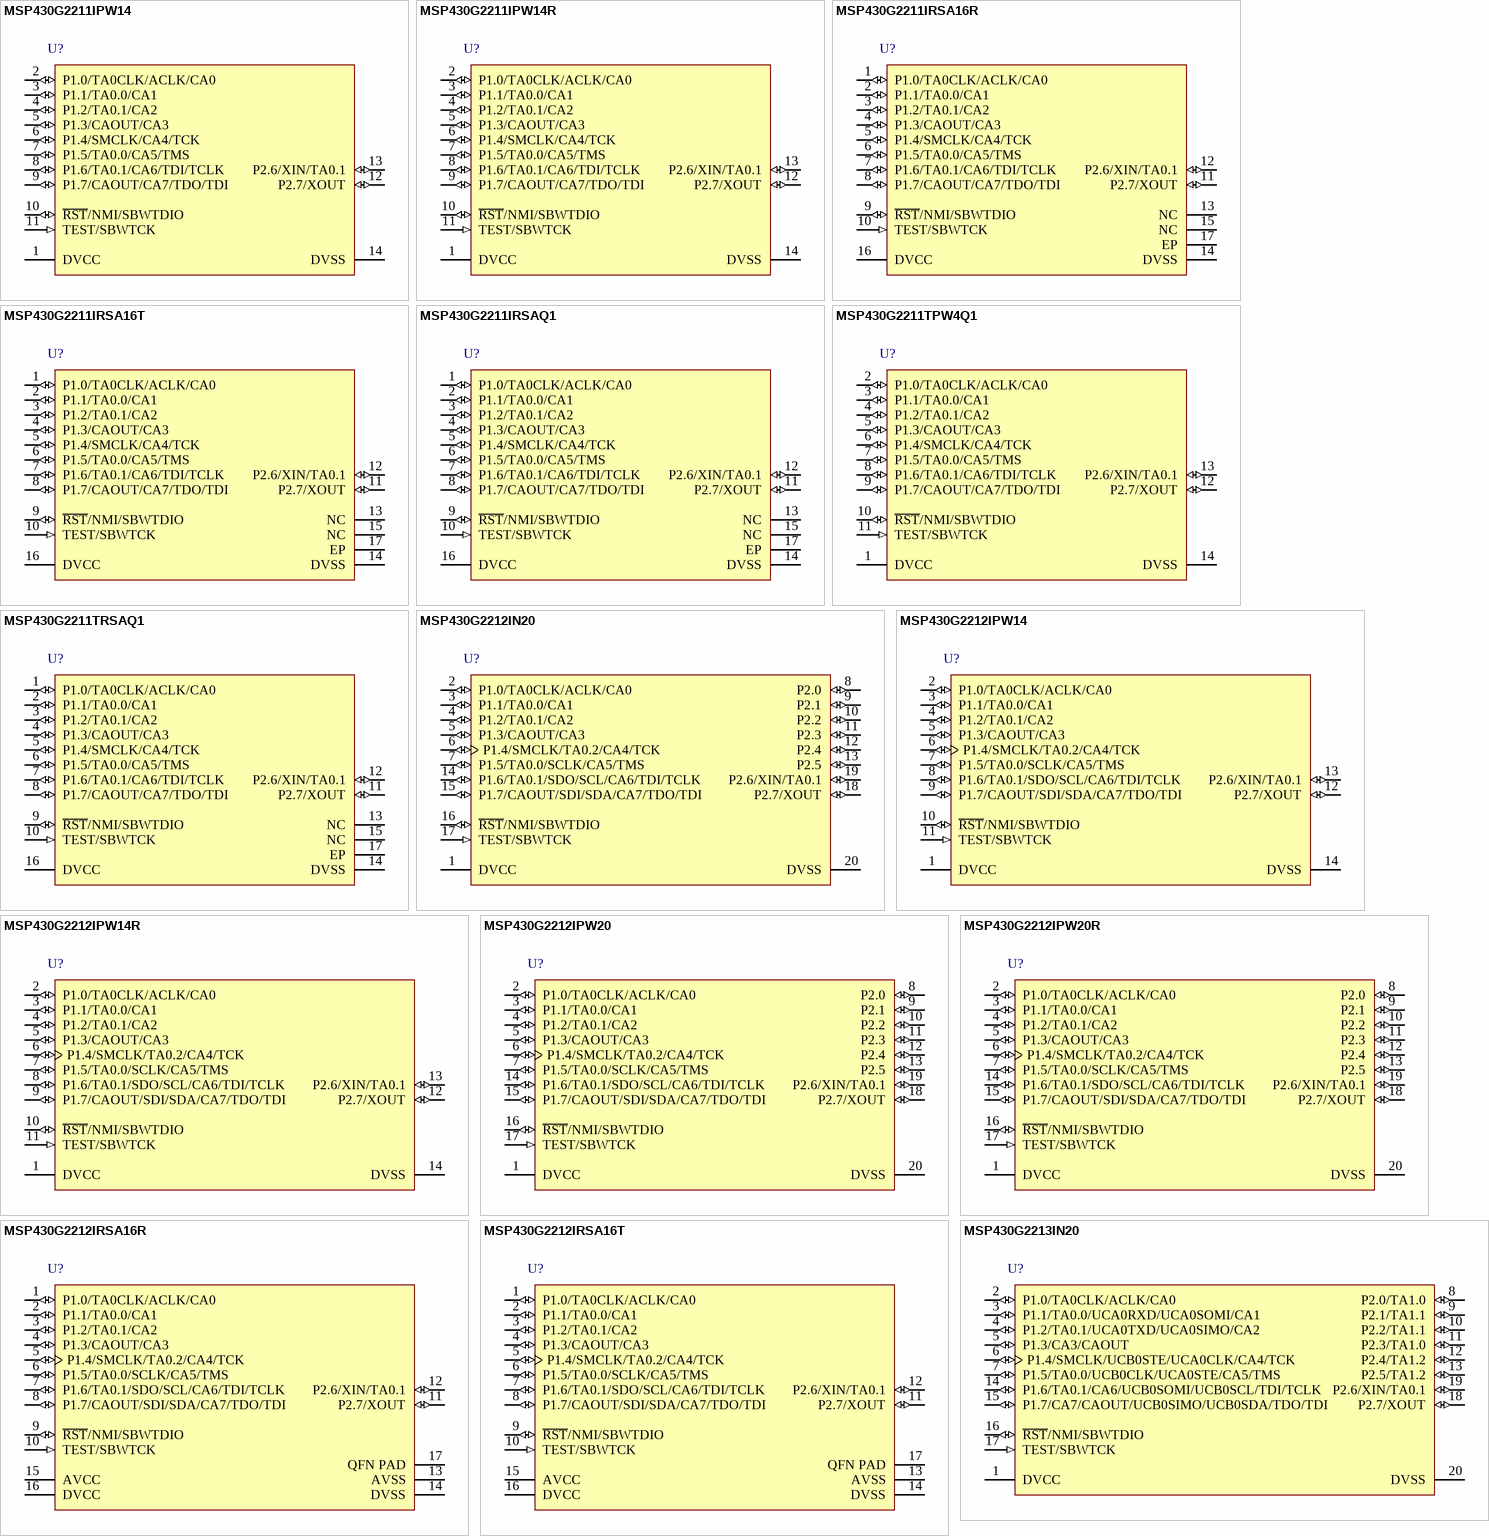
[diagram p218: symbols MSP430G2211IPW14 to MSP430G2213IN20]

## MSP430G2211IPW14
designator U?
16 MHz Mixed Signal Microcontroller with 2 KB Flash, 128 B SRAM and 10 GPIOs, -40 to 85 degC, 14-pin TSSOP (PW), Green (RoHS & no Sb/Br); Manufacturer: Texas Instruments; PartNumber: MSP430G2211IPW14; ADC: Slope; Brown Out Reset: Yes; Flash(KB): 2; Frequency(MHz): 16; GPIO: 10; SRAM(B): 128; SubFamily: Value Line; Timers - 16-bit: 1; DatasheetVersion: SLAS695G; PackageVersion: 4040064-3/G; PackageReference: PW14; PackageDescription: 14-Pin Plastic Small Outline, Body 5 x 4.4 mm, 0.65 mm Pitch; Supplier 1: Digi-Key; Supplier Part Number 1: 296-25830-5-ND; Supplier 2: Farnell; Supplier Part Number 2: 1812188; Supplier 3: Newark; Supplier Part Number 3: 90R9895; Supplier 4: Newark; Supplier Part Number 4: 23T0994; Supplier 5: Mouser; Supplier Part Number 5: 595-MSP430G2211IPW14; Comparators: Yes; Eco-Plan: Green (RoHS & no Sb/Br); Watchdog: Yes; Mounting Technology: Surface Mount; Code_JEDEC: MO-153; ComponentLink1Description: Manufacturer URL; ComponentLink1URL: http://www.ti.com/; ComponentLink2Description: Datasheet; ComponentLink2URL: http://www.ti.com/lit/ds/symlink/msp430g2001.pdf; ComponentLink3Description: Package Specification; ComponentLink3URL: http://www.ti.com/litv/pdf/mpds360
footprint TI-PW14_N (SOP, 14-Leads, Body 5x4.4mm, Pitch 0.65mm, IPC Medium Density)
pins: 1 DVCC (power) "Supply voltage", 2 P1.0/TA0CLK/ACLK/CA0 (io) "General-purpose digital I/O pin Timer0_A, clock signal TACLK input ACLK signal output Comparator_A+, CA0 input", 3 P1.1/TA0.0/CA1 (io) "General-purpose digital I/O pin Timer0_A, capture: CCI0A input, compare: Out0 output Comparator_A+, CA1 input", 4 P1.2/TA0.1/CA2 (io) "General-purpose digital I/O pin Timer0_A, capture: CCI1A input, compare: Out1 output Comparator_A+, CA2 input", 5 P1.3/CAOUT/CA3 (io) "General-purpose digital I/O pin  Comparator_A+, CA3 input Comparator_A+, output", 6 P1.4/SMCLK/CA4/TCK (io) "General-purpose digital I/O pin SMCLK signal output Comparator_A+, CA4 input  JTAG test clock, input terminal for device programming and test", 7 P1.5/TA0.0/CA5/TMS (io) "General-purpose digital I/O pin Timer0_A, compare: Out0 output Comparator_A+, CA5 input JTAG test mode select, input terminal for device programming and test", 8 P1.6/TA0.1/CA6/TDI/TCLK (io) "General-purpose digital I/O pin Timer0_A, compare: Out1 output Comparator_A+, CA6 input TCLK JTAG test data input or test clock input during programming and test", 9 P1.7/CAOUT/CA7/TDO/TDI (io) "General-purpose digital I/O pin CA7 input Comparator_A+, output  JTAG test data output terminal or test data input during programming and test", 10 ~{RST}/NMI/SBWTDIO (io) "Reset Nonmaskable interrupt input Spy-Bi-Wire test data input/output during programming and test", 11 TEST/SBWTCK (in) "Selects test mode for JTAG pins on Port 1. The device protection fuse is connected to TEST. Spy-Bi-Wire test clock input during programming and test", 12 P2.7/XOUT (io) "Output terminal of crystal oscillator General-purpose digital I/O pin", 13 P2.6/XIN/TA0.1 (io) "Input terminal of crystal oscillator General-purpose digital I/O pin Timer0_A, compare: Out1 output", 14 DVSS (power) "Ground reference"

## MSP430G2211IPW14R
designator U?
16 MHz Mixed Signal Microcontroller with 2 KB Flash, 128 B SRAM and 10 GPIOs, -40 to 85 degC, 14-pin TSSOP (PW), Green (RoHS & no Sb/Br); Manufacturer: Texas Instruments; PartNumber: MSP430G2211IPW14R; ADC: Slope; Brown Out Reset: Yes; Flash(KB): 2; Frequency(MHz): 16; GPIO: 10; SRAM(B): 128; SubFamily: Value Line; Timers - 16-bit: 1; DatasheetVersion: SLAS695G; PackageVersion: 4040064-3/G; PackageReference: PW14; PackageDescription: 14-Pin Plastic Small Outline, Body 5 x 4.4 mm, 0.65 mm Pitch; Supplier 1: Digi-Key; Supplier Part Number 1: 296-31696-2-ND; Supplier 2: Digi-Key; Supplier Part Number 2: 296-31696-1-ND; Supplier 3: Digi-Key; Supplier Part Number 3: 296-31696-6-ND; Supplier 4: Farnell; Supplier Part Number 4: 1866861; Supplier 5: Farnell; Supplier Part Number 5: 1866861RL; Supplier 6: Newark; Supplier Part Number 6: 47T2254; Supplier 7: Newark; Supplier Part Number 7: 74R6494; Supplier 8: Mouser; Supplier Part Number 8: 595-SP430G2211IPW14R; Comparators: Yes; Eco-Plan: Green (RoHS & no Sb/Br); Watchdog: Yes; Mounting Technology: Surface Mount; Code_JEDEC: MO-153; ComponentLink1Description: Manufacturer URL; ComponentLink1URL: http://www.ti.com/; ComponentLink2Description: Datasheet; ComponentLink2URL: http://www.ti.com/lit/ds/symlink/msp430g2001.pdf; ComponentLink3Description: Package Specification; ComponentLink3URL: http://www.ti.com/litv/pdf/mpds360
footprint TI-PW14_N (SOP, 14-Leads, Body 5x4.4mm, Pitch 0.65mm, IPC Medium Density)
pins: 1 DVCC (power) "Supply voltage", 2 P1.0/TA0CLK/ACLK/CA0 (io) "General-purpose digital I/O pin Timer0_A, clock signal TACLK input ACLK signal output Comparator_A+, CA0 input", 3 P1.1/TA0.0/CA1 (io) "General-purpose digital I/O pin Timer0_A, capture: CCI0A input, compare: Out0 output Comparator_A+, CA1 input", 4 P1.2/TA0.1/CA2 (io) "General-purpose digital I/O pin Timer0_A, capture: CCI1A input, compare: Out1 output Comparator_A+, CA2 input", 5 P1.3/CAOUT/CA3 (io) "General-purpose digital I/O pin  Comparator_A+, CA3 input Comparator_A+, output", 6 P1.4/SMCLK/CA4/TCK (io) "General-purpose digital I/O pin SMCLK signal output Comparator_A+, CA4 input  JTAG test clock, input terminal for device programming and test", 7 P1.5/TA0.0/CA5/TMS (io) "General-purpose digital I/O pin Timer0_A, compare: Out0 output Comparator_A+, CA5 input JTAG test mode select, input terminal for device programming and test", 8 P1.6/TA0.1/CA6/TDI/TCLK (io) "General-purpose digital I/O pin Timer0_A, compare: Out1 output Comparator_A+, CA6 input TCLK JTAG test data input or test clock input during programming and test", 9 P1.7/CAOUT/CA7/TDO/TDI (io) "General-purpose digital I/O pin CA7 input Comparator_A+, output  JTAG test data output terminal or test data input during programming and test", 10 ~{RST}/NMI/SBWTDIO (io) "Reset Nonmaskable interrupt input Spy-Bi-Wire test data input/output during programming and test", 11 TEST/SBWTCK (in) "Selects test mode for JTAG pins on Port 1. The device protection fuse is connected to TEST. Spy-Bi-Wire test clock input during programming and test", 12 P2.7/XOUT (io) "Output terminal of crystal oscillator General-purpose digital I/O pin", 13 P2.6/XIN/TA0.1 (io) "Input terminal of crystal oscillator General-purpose digital I/O pin Timer0_A, compare: Out1 output", 14 DVSS (power) "Ground reference"

## MSP430G2211IRSA16R
designator U?
16 MHz Mixed Signal Microcontroller with 2 KB Flash, 128 B SRAM and 10 GPIOs, -40 to 85 degC, 16-pin QFN (RSA), Green (RoHS & no Sb/Br); Manufacturer: Texas Instruments; PartNumber: MSP430G2211IRSA16R; ADC: Slope; Brown Out Reset: Yes; Flash(KB): 2; Frequency(MHz): 16; GPIO: 10; SRAM(B): 128; SubFamily: Value Line; Timers - 16-bit: 1; DatasheetVersion: SLAS695G; PackageVersion: revD, Jun-2011; PackageReference: RSA16-2700X2700TP; PackageDescription: 16-Pin Plastic Quad Flatpack No-Lead 0.65 mm Pitch; Supplier 1: Digi-Key; Supplier Part Number 1: 296-25831-2-ND; Supplier 2: Digi-Key; Supplier Part Number 2: 296-25831-1-ND; Supplier 3: Digi-Key; Supplier Part Number 3: 296-25831-6-ND; Supplier 4: Newark; Supplier Part Number 4: 74R6495; Supplier 5: Mouser; Supplier Part Number 5: 595-P430G2211IRSA16R; Comparators: Yes; Eco-Plan: Green (RoHS & no Sb/Br); Watchdog: Yes; Mounting Technology: Surface Mount; Code_JEDEC: MO-220; ComponentLink1Description: Manufacturer URL; ComponentLink1URL: http://www.ti.com/; ComponentLink2Description: Datasheet; ComponentLink2URL: http://www.ti.com/lit/ds/symlink/msp430g2001.pdf; ComponentLink3Description: Package Specification; ComponentLink3URL: http://www.ti.com/litv/pdf/mpqf145c
footprint TI-RSA16-2700X2700TP (QFN, 16-Leads, Body 4x4mm, Pitch 0.65mm, Thermal Pad 2.7x2.7mm, TI Recommended)
pins: 1 P1.0/TA0CLK/ACLK/CA0 (io), 2 P1.1/TA0.0/CA1 (io), 3 P1.2/TA0.1/CA2 (io), 4 P1.3/CAOUT/CA3 (io), 5 P1.4/SMCLK/CA4/TCK (io), 6 P1.5/TA0.0/CA5/TMS (io), 7 P1.6/TA0.1/CA6/TDI/TCLK (io), 8 P1.7/CAOUT/CA7/TDO/TDI (io), 9 ~{RST}/NMI/SBWTDIO (io), 10 TEST/SBWTCK (in), 11 P2.7/XOUT (io), 12 P2.6/XIN/TA0.1 (io), 13 NC "Not connected", 14 DVSS (power) "Ground reference", 15 NC "Not connected", 16 DVCC (power) "Supply voltage", 17 EP (power) "QFN package pad connection to VSS recommended."

## MSP430G2211IRSA16T
designator U?
16 MHz Mixed Signal Microcontroller with 2 KB Flash, 128 B SRAM and 10 GPIOs, 16-pin QFN (RSA), Green (RoHS & no Sb/Br); Manufacturer: Texas Instruments; PartNumber: MSP430G2211IRSA16T; ADC: Slope; Brown Out Reset: Yes; Flash(KB): 2; Frequency(MHz): 16; GPIO: 10; SRAM(B): 128; SubFamily: Value Line; Timers - 16-bit: 1; DatasheetVersion: SLAS695G; PackageVersion: revD, Jun-2011; PackageReference: RSA16-2700X2700TP; PackageDescription: 16-Pin Plastic Quad Flatpack No-Lead 0.65 mm Pitch; Supplier 1: Digi-Key; Supplier Part Number 1: MSP430G2211IRSA16T-ND; Supplier 2: Farnell; Supplier Part Number 2: 1866863; Supplier 3: Newark; Supplier Part Number 3: 47T2255; Supplier 4: Newark; Supplier Part Number 4: 74R6496; Supplier 5: Mouser; Supplier Part Number 5: 595-P430G2211IRSA16T; Comparators: Yes; Eco-Plan: Green (RoHS & no Sb/Br); Watchdog: Yes; Mounting Technology: Surface Mount; Code_JEDEC: MO-220; ComponentLink1Description: Manufacturer URL; ComponentLink1URL: http://www.ti.com/; ComponentLink2Description: Datasheet; ComponentLink2URL: http://www.ti.com/lit/ds/symlink/msp430g2001.pdf; ComponentLink3Description: Package Specification; ComponentLink3URL: http://www.ti.com/litv/pdf/mpqf145c
footprint TI-RSA16-2700X2700TP (QFN, 16-Leads, Body 4x4mm, Pitch 0.65mm, Thermal Pad 2.7x2.7mm, TI Recommended)
pins: 1 P1.0/TA0CLK/ACLK/CA0 (io), 2 P1.1/TA0.0/CA1 (io), 3 P1.2/TA0.1/CA2 (io), 4 P1.3/CAOUT/CA3 (io), 5 P1.4/SMCLK/CA4/TCK (io), 6 P1.5/TA0.0/CA5/TMS (io), 7 P1.6/TA0.1/CA6/TDI/TCLK (io), 8 P1.7/CAOUT/CA7/TDO/TDI (io), 9 ~{RST}/NMI/SBWTDIO (io), 10 TEST/SBWTCK (in), 11 P2.7/XOUT (io), 12 P2.6/XIN/TA0.1 (io), 13 NC "Not connected", 14 DVSS (power) "Ground reference", 15 NC "Not connected", 16 DVCC (power) "Supply voltage", 17 EP (power) "QFN package pad connection to VSS recommended."

## MSP430G2211IRSAQ1
designator U?
16 MHz Automotive Mixed Signal Microcontroller with 2 KB Flash, 128 B SRAM and 10 GPIOs, -40 to 85 degC, 16-pin QFN (RSA); Manufacturer: Texas Instruments; PartNumber: MSP430G2211IRSAQ1; ADC: Slope; Brown Out Reset: Yes; Eco-Plan: TBD; Flash(KB): 2; Frequency(MHz): 16; GPIO: 10; SRAM(B): 128; Timers - 16-bit: 1; USI: (I2C/SPI); DatasheetVersion: SLAS695G; PackageVersion: revD, Jun-2011; PackageReference: RSA16-2700X2700TP; PackageDescription: 16-Pin Plastic Quad Flatpack No-Lead 0.65 mm Pitch; Supplier 1: Digi-Key; Supplier Part Number 1: MSP430G2211IRSAQ1-ND; Supplier 2: Mouser; Supplier Part Number 2: 595-SP430G2211IRSAQ1; SubFamily: Automotive; Watchdog: Yes; Mounting Technology: Surface Mount; Code_JEDEC: MO-220; ComponentLink1Description: Manufacturer URL; ComponentLink1URL: http://www.ti.com/; ComponentLink2Description: Datasheet; ComponentLink2URL: http://www.ti.com/lit/ds/symlink/msp430g2001.pdf; ComponentLink3Description: Package Specification; ComponentLink3URL: http://www.ti.com/litv/pdf/mpqf145c
footprint TI-RSA16-2700X2700TP (QFN, 16-Leads, Body 4x4mm, Pitch 0.65mm, Thermal Pad 2.7x2.7mm, TI Recommended)
pins: 1 P1.0/TA0CLK/ACLK/CA0 (io), 2 P1.1/TA0.0/CA1 (io), 3 P1.2/TA0.1/CA2 (io), 4 P1.3/CAOUT/CA3 (io), 5 P1.4/SMCLK/CA4/TCK (io), 6 P1.5/TA0.0/CA5/TMS (io), 7 P1.6/TA0.1/CA6/TDI/TCLK (io), 8 P1.7/CAOUT/CA7/TDO/TDI (io), 9 ~{RST}/NMI/SBWTDIO (io), 10 TEST/SBWTCK (in), 11 P2.7/XOUT (io), 12 P2.6/XIN/TA0.1 (io), 13 NC "Not connected", 14 DVSS (power) "Ground reference", 15 NC "Not connected", 16 DVCC (power) "Supply voltage", 17 EP (power) "QFN package pad connection to VSS recommended."

## MSP430G2211TPW4Q1
designator U?
16 MHz Automotive Mixed Signal Microcontroller with 2 KB Flash, 128 B SRAM and 10 GPIOs, -40 to 105 degC, 14-pin TSSOP (PW), Green (RoHS & no Sb/Br); Manufacturer: Texas Instruments; PartNumber: MSP430G2211TPW4Q1; ADC: Slope; Brown Out Reset: Yes; Flash(KB): 2; Frequency(MHz): 16; GPIO: 10; SRAM(B): 128; Timers - 16-bit: 1; USI: (I2C/SPI); DatasheetVersion: SLAS695G; PackageVersion: 4040064-3/G; PackageReference: PW14; PackageDescription: 14-Pin Plastic Small Outline, Body 5 x 4.4 mm, 0.65 mm Pitch; Supplier 1: Mouser; Supplier Part Number 1: N/A; Eco-Plan: Green (RoHS & no Sb/Br); SubFamily: Automotive; Watchdog: Yes; Mounting Technology: Surface Mount; Code_JEDEC: MO-153; ComponentLink1Description: Manufacturer URL; ComponentLink1URL: http://www.ti.com/; ComponentLink2Description: Datasheet; ComponentLink2URL: http://www.ti.com/lit/ds/symlink/msp430g2001.pdf; ComponentLink3Description: Package Specification; ComponentLink3URL: http://www.ti.com/litv/pdf/mpds360
footprint TI-PW14_N (SOP, 14-Leads, Body 5x4.4mm, Pitch 0.65mm, IPC Medium Density)
pins: 1 DVCC (power) "Supply voltage", 2 P1.0/TA0CLK/ACLK/CA0 (io), 3 P1.1/TA0.0/CA1 (io), 4 P1.2/TA0.1/CA2 (io), 5 P1.3/CAOUT/CA3 (io), 6 P1.4/SMCLK/CA4/TCK (io), 7 P1.5/TA0.0/CA5/TMS (io), 8 P1.6/TA0.1/CA6/TDI/TCLK (io), 9 P1.7/CAOUT/CA7/TDO/TDI (io), 10 ~{RST}/NMI/SBWTDIO (io), 11 TEST/SBWTCK (in), 12 P2.7/XOUT (io), 13 P2.6/XIN/TA0.1 (io), 14 DVSS (power) "Ground reference"

## MSP430G2211TRSAQ1
designator U?
16 MHz Automotive Mixed Signal Microcontroller with 2 KB Flash, 128 B SRAM and 10 GPIOs, -40 to 105 degC, 16-pin QFN (RSA); Manufacturer: Texas Instruments; PartNumber: MSP430G2211TRSAQ1; ADC: Slope; Brown Out Reset: Yes; Eco-Plan: TBD; Flash(KB): 2; Frequency(MHz): 16; GPIO: 10; SRAM(B): 128; Timers - 16-bit: 1; USI: (I2C/SPI); DatasheetVersion: SLAS695G; PackageVersion: revD, Jun-2011; PackageReference: RSA16-2700X2700TP; PackageDescription: 16-Pin Plastic Quad Flatpack No-Lead 0.65 mm Pitch; Supplier 1: Mouser; Supplier Part Number 1: N/A; SubFamily: Automotive; Watchdog: Yes; Mounting Technology: Surface Mount; Code_JEDEC: MO-220; ComponentLink1Description: Manufacturer URL; ComponentLink1URL: http://www.ti.com/; ComponentLink2Description: Datasheet; ComponentLink2URL: http://www.ti.com/lit/ds/symlink/msp430g2001.pdf; ComponentLink3Description: Package Specification; ComponentLink3URL: http://www.ti.com/litv/pdf/mpqf145c
footprint TI-RSA16-2700X2700TP (QFN, 16-Leads, Body 4x4mm, Pitch 0.65mm, Thermal Pad 2.7x2.7mm, TI Recommended)
pins: 1 P1.0/TA0CLK/ACLK/CA0 (io), 2 P1.1/TA0.0/CA1 (io), 3 P1.2/TA0.1/CA2 (io), 4 P1.3/CAOUT/CA3 (io), 5 P1.4/SMCLK/CA4/TCK (io), 6 P1.5/TA0.0/CA5/TMS (io), 7 P1.6/TA0.1/CA6/TDI/TCLK (io), 8 P1.7/CAOUT/CA7/TDO/TDI (io), 9 ~{RST}/NMI/SBWTDIO (io), 10 TEST/SBWTCK (in), 11 P2.7/XOUT (io), 12 P2.6/XIN/TA0.1 (io), 13 NC "Not connected", 14 DVSS (power) "Ground reference", 15 NC "Not connected", 16 DVCC (power) "Supply voltage", 17 EP (power) "QFN package pad connection to VSS recommended."

## MSP430G2212IN20
designator U?
16 MHz Mixed Signal Microcontroller with 2 KB Flash, 256 B SRAM and 16 GPIOs, 20-pin DIP (N), Pb-Free (RoHS); Manufacturer: Texas Instruments; PartNumber: MSP430G2212IN20; Brown Out Reset: Yes; Flash(KB): 2; Frequency(MHz): 16; SRAM(B): 256; SubFamily: Value Line; Timers - 16-bit: 1; USI: (I2C/SPI); DatasheetVersion: SLAS722E; PackageVersion: 4040049/E; PackageReference: N20; PackageDescription: 20-Pin Plastic In-Line, Body 25.40 x 6.35 mm, Pitch 2.54 mm; Supplier 1: Digi-Key; Supplier Part Number 1: MSP430G2203IRHB32T-ND; Supplier 2: Mouser; Supplier Part Number 2: 595-P430G2203IRHB32T; Cap touch I/O: Yes; Comparators: Yes; Eco-Plan: Pb-Free (RoHS); GPIO: 16; Watchdog: Yes; Mounting Technology: Through Hole; Code_JEDEC: MS-001; ComponentLink1Description: Manufacturer URL; ComponentLink1URL: http://www.ti.com/; ComponentLink2Description: Datasheet; ComponentLink2URL: http://www.ti.com/general/docs/lit/getliterature.tsp?genericPartNumber=MSP430G2212&fileType=pdf; ComponentLink3Description: Package Specification; ComponentLink3URL: http://www.ti.com/litv/pdf/mpds177g
footprint TI-N20 (DIP, 20-Leads, Body 25.4x6.35 mm, Pitch 2.54 mm)
pins: 1 DVCC (power) "Supply voltage", 2 P1.0/TA0CLK/ACLK/CA0 (io), 3 P1.1/TA0.0/CA1 (io), 4 P1.2/TA0.1/CA2 (io), 5 P1.3/CAOUT/CA3 (io), 6 P1.4/SMCLK/TA0.2/CA4/TCK (io), 7 P1.5/TA0.0/SCLK/CA5/TMS (io), 8 P2.0 (io) "General-purpose digital I/O pin", 9 P2.1 (io) "General-purpose digital I/O pin", 10 P2.2 (io) "General-purpose digital I/O pin", 11 P2.3 (io) "General-purpose digital I/O pin", 12 P2.4 (io) "General-purpose digital I/O pin", 13 P2.5 (io) "General-purpose digital I/O pin", 14 P1.6/TA0.1/SDO/SCL/CA6/TDI/TCLK (io), 15 P1.7/CAOUT/SDI/SDA/CA7/TDO/TDI (io), 16 ~{RST}/NMI/SBWTDIO (io), 17 TEST/SBWTCK (in), 18 P2.7/XOUT (io), 19 P2.6/XIN/TA0.1 (io), 20 DVSS (power) "Ground reference"

## MSP430G2212IPW14
designator U?
16 MHz Mixed Signal Microcontroller with 2 KB Flash, 256 B SRAM and 16 GPIOs, 14-pin SOP (PW), Green (RoHS & no Sb/Br); Manufacturer: Texas Instruments; PartNumber: MSP430G2212IPW14; Brown Out Reset: Yes; Flash(KB): 2; Frequency(MHz): 16; SRAM(B): 256; SubFamily: Value Line; Timers - 16-bit: 1; USI: (I2C/SPI); DatasheetVersion: SLAS722E; PackageVersion: 4040064-3/G; PackageReference: PW14; PackageDescription: 14-Pin Plastic Small Outline, Body 5 x 4.4 mm, 0.65 mm Pitch; Supplier 1: Digi-Key; Supplier Part Number 1: 296-29623-5-ND; Supplier 2: Farnell; Supplier Part Number 2: 1866864; Supplier 3: Mouser; Supplier Part Number 3: 595-MSP430G2212IN20; Cap touch I/O: Yes; Comparators: Yes; Eco-Plan: Green (RoHS & no Sb/Br); GPIO: 16; Watchdog: Yes; Mounting Technology: Surface Mount; Code_JEDEC: MO-153; ComponentLink1Description: Manufacturer URL; ComponentLink1URL: http://www.ti.com/; ComponentLink2Description: Datasheet; ComponentLink2URL: http://www.ti.com/general/docs/lit/getliterature.tsp?genericPartNumber=MSP430G2212&fileType=pdf; ComponentLink3Description: Package Specification; ComponentLink3URL: http://www.ti.com/litv/pdf/mpds360
footprint TI-PW14_N (SOP, 14-Leads, Body 5x4.4mm, Pitch 0.65mm, IPC Medium Density)
pins: 1 DVCC (power) "Supply voltage", 2 P1.0/TA0CLK/ACLK/CA0 (io), 3 P1.1/TA0.0/CA1 (io), 4 P1.2/TA0.1/CA2 (io), 5 P1.3/CAOUT/CA3 (io), 6 P1.4/SMCLK/TA0.2/CA4/TCK (io), 7 P1.5/TA0.0/SCLK/CA5/TMS (io), 8 P1.6/TA0.1/SDO/SCL/CA6/TDI/TCLK (io), 9 P1.7/CAOUT/SDI/SDA/CA7/TDO/TDI (io), 10 ~{RST}/NMI/SBWTDIO (io), 11 TEST/SBWTCK (in), 12 P2.7/XOUT (io), 13 P2.6/XIN/TA0.1 (io), 14 DVSS (power) "Ground reference"

## MSP430G2212IPW14R
designator U?
16 MHz Mixed Signal Microcontroller with 2 KB Flash, 256 B SRAM and 16 GPIOs, 14-pin SOP (PW), Green (RoHS & no Sb/Br); Manufacturer: Texas Instruments; PartNumber: MSP430G2212IPW14R; Brown Out Reset: Yes; Flash(KB): 2; Frequency(MHz): 16; SRAM(B): 256; SubFamily: Value Line; Timers - 16-bit: 1; USI: (I2C/SPI); DatasheetVersion: SLAS722E; PackageVersion: 4040064-3/G; PackageReference: PW14; PackageDescription: 14-Pin Plastic Small Outline, Body 5 x 4.4 mm, 0.65 mm Pitch; Supplier 1: Digi-Key; Supplier Part Number 1: 296-29624-5-ND; Supplier 2: Farnell; Supplier Part Number 2: 1866865; Supplier 3: Mouser; Supplier Part Number 3: 595-MSP430G2212IPW14; Cap touch I/O: Yes; Comparators: Yes; Eco-Plan: Green (RoHS & no Sb/Br); GPIO: 16; Watchdog: Yes; Mounting Technology: Surface Mount; Code_JEDEC: MO-153; ComponentLink1Description: Manufacturer URL; ComponentLink1URL: http://www.ti.com/; ComponentLink2Description: Datasheet; ComponentLink2URL: http://www.ti.com/general/docs/lit/getliterature.tsp?genericPartNumber=MSP430G2212&fileType=pdf; ComponentLink3Description: Package Specification; ComponentLink3URL: http://www.ti.com/litv/pdf/mpds360
footprint TI-PW14_N (SOP, 14-Leads, Body 5x4.4mm, Pitch 0.65mm, IPC Medium Density)
pins: 1 DVCC (power) "Supply voltage", 2 P1.0/TA0CLK/ACLK/CA0 (io), 3 P1.1/TA0.0/CA1 (io), 4 P1.2/TA0.1/CA2 (io), 5 P1.3/CAOUT/CA3 (io), 6 P1.4/SMCLK/TA0.2/CA4/TCK (io), 7 P1.5/TA0.0/SCLK/CA5/TMS (io), 8 P1.6/TA0.1/SDO/SCL/CA6/TDI/TCLK (io), 9 P1.7/CAOUT/SDI/SDA/CA7/TDO/TDI (io), 10 ~{RST}/NMI/SBWTDIO (io), 11 TEST/SBWTCK (in), 12 P2.7/XOUT (io), 13 P2.6/XIN/TA0.1 (io), 14 DVSS (power) "Ground reference"

## MSP430G2212IPW20
designator U?
16 MHz Mixed Signal Microcontroller with 2 KB Flash, 256 B SRAM and 16 GPIOs, 20-pin SOP (PW), Green (RoHS & no Sb/Br); Manufacturer: Texas Instruments; PartNumber: MSP430G2212IPW20; Brown Out Reset: Yes; Flash(KB): 2; Frequency(MHz): 16; SRAM(B): 256; SubFamily: Value Line; Timers - 16-bit: 1; USI: (I2C/SPI); DatasheetVersion: SLAS722E; PackageVersion: 4040064-5/G; PackageReference: PW20; PackageDescription: 20-Pin Plastic Small Outline, Body 6.5 x 4.4 mm, 0.65 mm Pitch; Supplier 1: Digi-Key; Supplier Part Number 1: MSP430G2212IPW14R-ND; Supplier 2: Mouser; Supplier Part Number 2: 595-SP430G2212IPW14R; Cap touch I/O: Yes; Comparators: Yes; Eco-Plan: Green (RoHS & no Sb/Br); GPIO: 16; Watchdog: Yes; Mounting Technology: Surface Mount; Code_JEDEC: MO-153; ComponentLink1Description: Manufacturer URL; ComponentLink1URL: http://www.ti.com/; ComponentLink2Description: Datasheet; ComponentLink2URL: http://www.ti.com/general/docs/lit/getliterature.tsp?genericPartNumber=MSP430G2212&fileType=pdf; ComponentLink3Description: Package Specification; ComponentLink3URL: http://www.ti.com.cn/cn/lit/ml/mpds362/mpds362.pdf
footprint TI-PW20_N (SOP, 20-Leads, Body 6.5x4.4mm, Pitch 0.65mm, IPC Medium Density)
pins: 1 DVCC (power) "Supply voltage", 2 P1.0/TA0CLK/ACLK/CA0 (io), 3 P1.1/TA0.0/CA1 (io), 4 P1.2/TA0.1/CA2 (io), 5 P1.3/CAOUT/CA3 (io), 6 P1.4/SMCLK/TA0.2/CA4/TCK (io), 7 P1.5/TA0.0/SCLK/CA5/TMS (io), 8 P2.0 (io) "General-purpose digital I/O pin", 9 P2.1 (io) "General-purpose digital I/O pin", 10 P2.2 (io) "General-purpose digital I/O pin", 11 P2.3 (io) "General-purpose digital I/O pin", 12 P2.4 (io) "General-purpose digital I/O pin", 13 P2.5 (io) "General-purpose digital I/O pin", 14 P1.6/TA0.1/SDO/SCL/CA6/TDI/TCLK (io), 15 P1.7/CAOUT/SDI/SDA/CA7/TDO/TDI (io), 16 ~{RST}/NMI/SBWTDIO (io), 17 TEST/SBWTCK (in), 18 P2.7/XOUT (io), 19 P2.6/XIN/TA0.1 (io), 20 DVSS (power) "Ground reference"

## MSP430G2212IPW20R
designator U?
16 MHz Mixed Signal Microcontroller with 2 KB Flash, 256 B SRAM and 16 GPIOs, 20-pin SOP (PW), Green (RoHS & no Sb/Br); Manufacturer: Texas Instruments; PartNumber: MSP430G2212IPW20R; Brown Out Reset: Yes; Flash(KB): 2; Frequency(MHz): 16; SRAM(B): 256; SubFamily: Value Line; Timers - 16-bit: 1; USI: (I2C/SPI); DatasheetVersion: SLAS722E; PackageVersion: 4040064-5/G; PackageReference: PW20; PackageDescription: 20-Pin Plastic Small Outline, Body 6.5 x 4.4 mm, 0.65 mm Pitch; Supplier 1: Digi-Key; Supplier Part Number 1: 296-29625-5-ND; Supplier 2: Farnell; Supplier Part Number 2: 1866866; Supplier 3: Mouser; Supplier Part Number 3: 595-MSP430G2212IPW20; Cap touch I/O: Yes; Comparators: Yes; Eco-Plan: Green (RoHS & no Sb/Br); GPIO: 16; Watchdog: Yes; Mounting Technology: Surface Mount; Code_JEDEC: MO-153; ComponentLink1Description: Manufacturer URL; ComponentLink1URL: http://www.ti.com/; ComponentLink2Description: Datasheet; ComponentLink2URL: http://www.ti.com/general/docs/lit/getliterature.tsp?genericPartNumber=MSP430G2212&fileType=pdf; ComponentLink3Description: Package Specification; ComponentLink3URL: http://www.ti.com.cn/cn/lit/ml/mpds362/mpds362.pdf
footprint TI-PW20_N (SOP, 20-Leads, Body 6.5x4.4mm, Pitch 0.65mm, IPC Medium Density)
pins: 1 DVCC (power) "Supply voltage", 2 P1.0/TA0CLK/ACLK/CA0 (io), 3 P1.1/TA0.0/CA1 (io), 4 P1.2/TA0.1/CA2 (io), 5 P1.3/CAOUT/CA3 (io), 6 P1.4/SMCLK/TA0.2/CA4/TCK (io), 7 P1.5/TA0.0/SCLK/CA5/TMS (io), 8 P2.0 (io) "General-purpose digital I/O pin", 9 P2.1 (io) "General-purpose digital I/O pin", 10 P2.2 (io) "General-purpose digital I/O pin", 11 P2.3 (io) "General-purpose digital I/O pin", 12 P2.4 (io) "General-purpose digital I/O pin", 13 P2.5 (io) "General-purpose digital I/O pin", 14 P1.6/TA0.1/SDO/SCL/CA6/TDI/TCLK (io), 15 P1.7/CAOUT/SDI/SDA/CA7/TDO/TDI (io), 16 ~{RST}/NMI/SBWTDIO (io), 17 TEST/SBWTCK (in), 18 P2.7/XOUT (io), 19 P2.6/XIN/TA0.1 (io), 20 DVSS (power) "Ground reference"